# Altium footprint library Miscellaneous Devices LC.PcbLib: 559 footprints (part 15 of 35)
Each footprint in its own frame and in the unit in brackets; x right, y up, seen from the top. Pads: shape width x height; smd on the part's side, far side on the other; paste and mask are expansions set on the pad; w line width, h text height; cw(c..) or ccw(c..) is an arc to the next point about the centre after c.
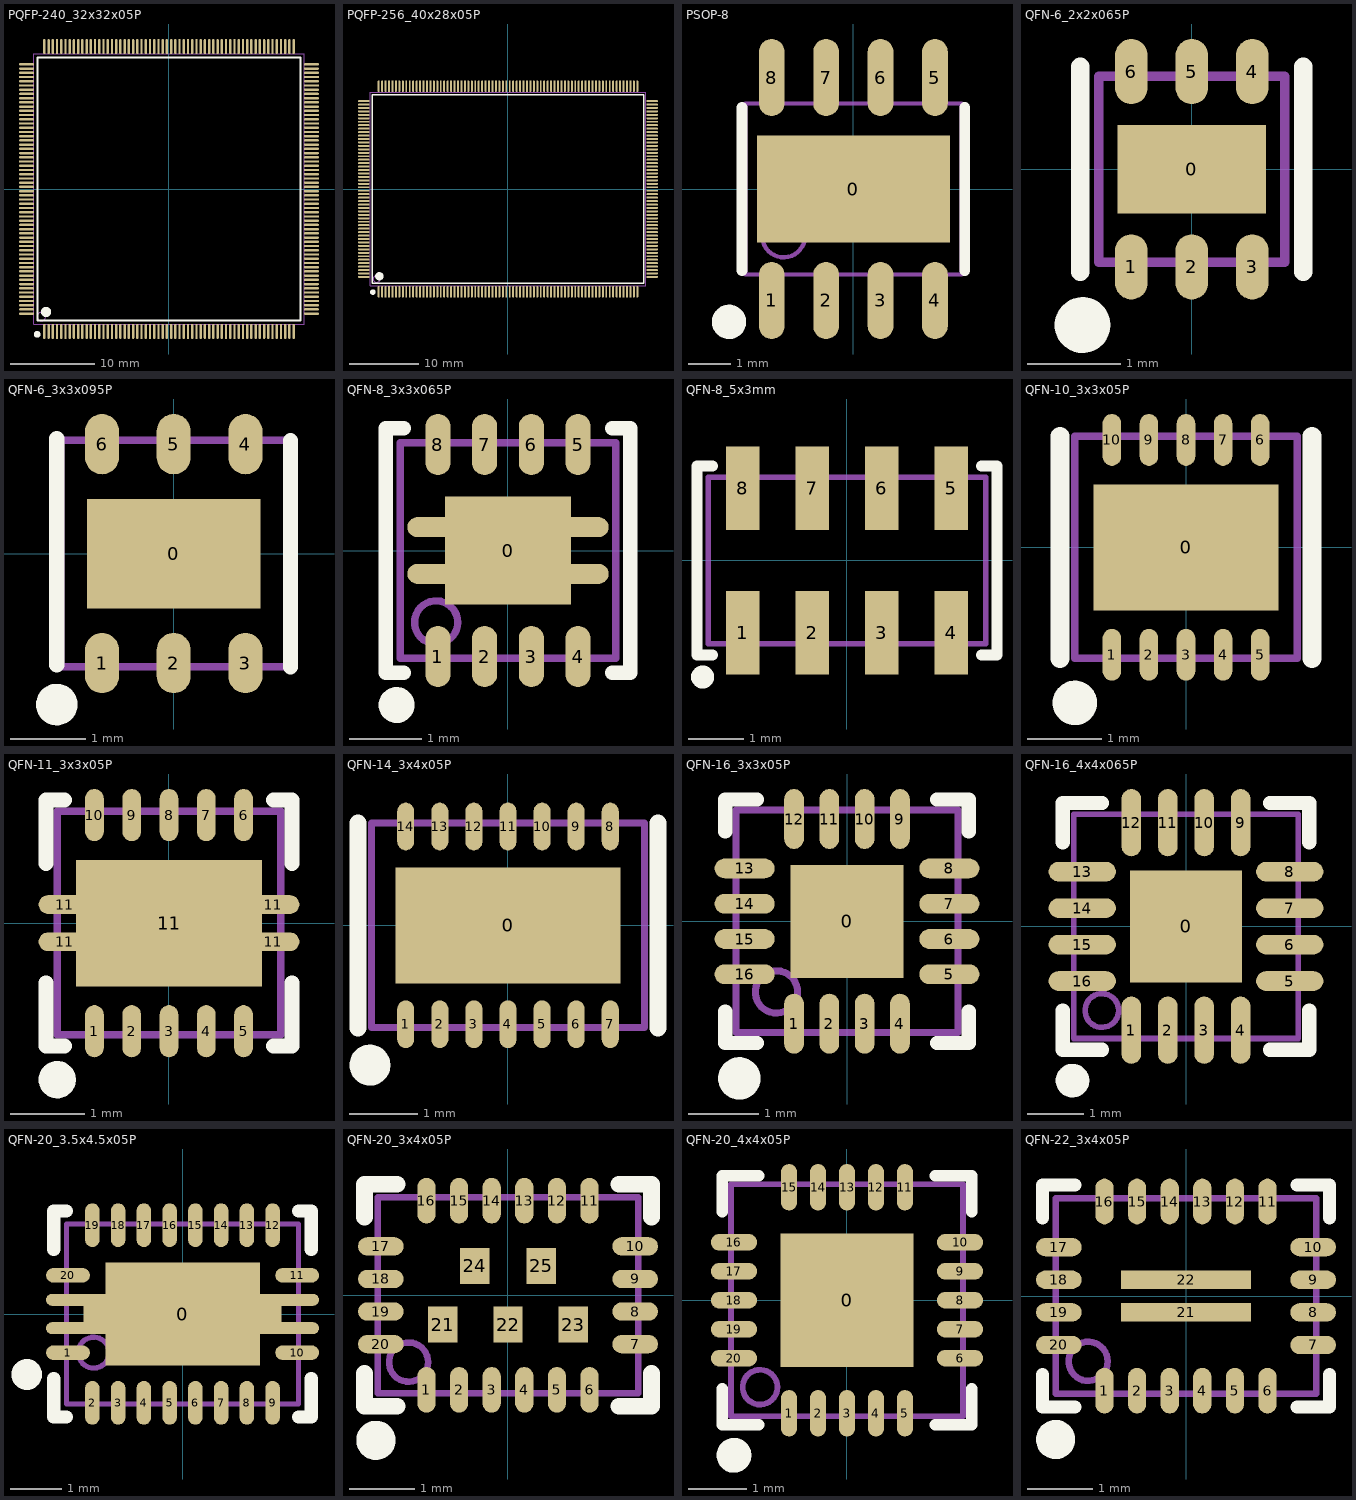
[diagram p14: the footprints below, top view; thin cyan lines are the x and y axes]

## PQFP-240_32x32x05P [mm]
pads (240):
  oval 0.28x1.8 smd mask+0.051: 1(-14.75,-16.85) 2(-14.25,-16.85) 3(-13.75,-16.85) 4(-13.25,-16.85) 5(-12.75,-16.85) 6(-12.25,-16.85) 7(-11.75,-16.85) 8(-11.25,-16.85) 9(-10.75,-16.85) 10(-10.25,-16.85) 11(-9.75,-16.85) 12(-9.25,-16.85) 13(-8.75,-16.85) 14(-8.25,-16.85) 15(-7.75,-16.85) 16(-7.25,-16.85) 17(-6.75,-16.85) 18(-6.25,-16.85) 19(-5.75,-16.85) 20(-5.25,-16.85) 21(-4.75,-16.85) 22(-4.25,-16.85) 23(-3.75,-16.85) 24(-3.25,-16.85) 25(-2.75,-16.85) 26(-2.25,-16.85) 27(-1.75,-16.85) 28(-1.25,-16.85) 29(-0.75,-16.85) 30(-0.25,-16.85) 31(0.25,-16.85) 32(0.75,-16.85) 33(1.25,-16.85) 34(1.75,-16.85) 35(2.25,-16.85) 36(2.75,-16.85) 37(3.25,-16.85) 38(3.75,-16.85) 39(4.25,-16.85) 40(4.75,-16.85) 41(5.25,-16.85) 42(5.75,-16.85) 43(6.25,-16.85) 44(6.75,-16.85) 45(7.25,-16.85) 46(7.75,-16.85) 47(8.25,-16.85) 48(8.75,-16.85) 49(9.25,-16.85) 50(9.75,-16.85) 51(10.25,-16.85) 52(10.75,-16.85) 53(11.25,-16.85) 54(11.75,-16.85) 55(12.25,-16.85) 56(12.75,-16.85) 57(13.25,-16.85) 58(13.75,-16.85) 59(14.25,-16.85) 60(14.75,-16.85) 121(14.75,16.85) 122(14.25,16.85) 123(13.75,16.85) 124(13.25,16.85) 125(12.75,16.85) 126(12.25,16.85) 127(11.75,16.85) 128(11.25,16.85) 129(10.75,16.85) 130(10.25,16.85) 131(9.75,16.85) 132(9.25,16.85) 133(8.75,16.85) 134(8.25,16.85) 135(7.75,16.85) 136(7.25,16.85) 137(6.75,16.85) 138(6.25,16.85) 139(5.75,16.85) 140(5.25,16.85) 141(4.75,16.85) 142(4.25,16.85) 143(3.75,16.85) 144(3.25,16.85) 145(2.75,16.85) 146(2.25,16.85) 147(1.75,16.85) 148(1.25,16.85) 149(0.75,16.85) 150(0.25,16.85) 151(-0.25,16.85) 152(-0.75,16.85) 153(-1.25,16.85) 154(-1.75,16.85) 155(-2.25,16.85) 156(-2.75,16.85) 157(-3.25,16.85) 158(-3.75,16.85) 159(-4.25,16.85) 160(-4.75,16.85) 161(-5.25,16.85) 162(-5.75,16.85) 163(-6.25,16.85) 164(-6.75,16.85) 165(-7.25,16.85) 166(-7.75,16.85) 167(-8.25,16.85) 168(-8.75,16.85) 169(-9.25,16.85) 170(-9.75,16.85) 171(-10.25,16.85) 172(-10.75,16.85) 173(-11.25,16.85) 174(-11.75,16.85) 175(-12.25,16.85) 176(-12.75,16.85) 177(-13.25,16.85) 178(-13.75,16.85) 179(-14.25,16.85) 180(-14.75,16.85)
  oval 1.8x0.28 smd mask+0.051: 61(16.85,-14.75) 62(16.85,-14.25) 63(16.85,-13.75) 64(16.85,-13.25) 65(16.85,-12.75) 66(16.85,-12.25) 67(16.85,-11.75) 68(16.85,-11.25) 69(16.85,-10.75) 70(16.85,-10.25) 71(16.85,-9.75) 72(16.85,-9.25) 73(16.85,-8.75) 74(16.85,-8.25) 75(16.85,-7.75) 76(16.85,-7.25) 77(16.85,-6.75) 78(16.85,-6.25) 79(16.85,-5.75) 80(16.85,-5.25) 81(16.85,-4.75) 82(16.85,-4.25) 83(16.85,-3.75) 84(16.85,-3.25) 85(16.85,-2.75) 86(16.85,-2.25) 87(16.85,-1.75) 88(16.85,-1.25) 89(16.85,-0.75) 90(16.85,-0.25) 91(16.85,0.25) 92(16.85,0.75) 93(16.85,1.25) 94(16.85,1.75) 95(16.85,2.25) 96(16.85,2.75) 97(16.85,3.25) 98(16.85,3.75) 99(16.85,4.25) 100(16.85,4.75) 101(16.85,5.25) 102(16.85,5.75) 103(16.85,6.25) 104(16.85,6.75) 105(16.85,7.25) 106(16.85,7.75) 107(16.85,8.25) 108(16.85,8.75) 109(16.85,9.25) 110(16.85,9.75) 111(16.85,10.25) 112(16.85,10.75) 113(16.85,11.25) 114(16.85,11.75) 115(16.85,12.25) 116(16.85,12.75) 117(16.85,13.25) 118(16.85,13.75) 119(16.85,14.25) 120(16.85,14.75) 181(-16.85,14.75) 182(-16.85,14.25) 183(-16.85,13.75) 184(-16.85,13.25) 185(-16.85,12.75) 186(-16.85,12.25) 187(-16.85,11.75) 188(-16.85,11.25) 189(-16.85,10.75) 190(-16.85,10.25) 191(-16.85,9.75) 192(-16.85,9.25) 193(-16.85,8.75) 194(-16.85,8.25) 195(-16.85,7.75) 196(-16.85,7.25) 197(-16.85,6.75) 198(-16.85,6.25) 199(-16.85,5.75) 200(-16.85,5.25) 201(-16.85,4.75) 202(-16.85,4.25) 203(-16.85,3.75) 204(-16.85,3.25) 205(-16.85,2.75) 206(-16.85,2.25) 207(-16.85,1.75) 208(-16.85,1.25) 209(-16.85,0.75) 210(-16.85,0.25) 211(-16.85,-0.25) 212(-16.85,-0.75) 213(-16.85,-1.25) 214(-16.85,-1.75) 215(-16.85,-2.25) 216(-16.85,-2.75) 217(-16.85,-3.25) 218(-16.85,-3.75) 219(-16.85,-4.25) 220(-16.85,-4.75) 221(-16.85,-5.25) 222(-16.85,-5.75) 223(-16.85,-6.25) 224(-16.85,-6.75) 225(-16.85,-7.25) 226(-16.85,-7.75) 227(-16.85,-8.25) 228(-16.85,-8.75) 229(-16.85,-9.25) 230(-16.85,-9.75) 231(-16.85,-10.25) 232(-16.85,-10.75) 233(-16.85,-11.25) 234(-16.85,-11.75) 235(-16.85,-12.25) 236(-16.85,-12.75) 237(-16.85,-13.25) 238(-16.85,-13.75) 239(-16.85,-14.25) 240(-16.85,-14.75)
Top Overlay:
  circle w0.6: c-14.55,-14.55 r0.3
  circle w0.4: c-15.6,-17.2 r0.2
  lines w0.2: -15.55,-15.55 -15.55,15.55 15.55,15.55 15.55,-15.55 -15.55,-15.55
Mechanical 13:
  circle w0.1: c-15.1,-15.1 r0.5
  lines w0.1: -16,-16 -16,16 16,16 16,-16 -16,-16

## PQFP-256_40x28x05P [mm] "Shrink QFP, 256-Leads, Body 40x28 mm, Pitch 0.5mm, IPC Medium Density"
pads (256):
  oval 0.28x1.7 smd mask+0.051: 1(-18.75,-14.9) 2(-18.25,-14.9) 3(-17.75,-14.9) 4(-17.25,-14.9) 5(-16.75,-14.9) 6(-16.25,-14.9) 7(-15.75,-14.9) 8(-15.25,-14.9) 9(-14.75,-14.9) 10(-14.25,-14.9) 11(-13.75,-14.9) 12(-13.25,-14.9) 13(-12.75,-14.9) 14(-12.25,-14.9) 15(-11.75,-14.9) 16(-11.25,-14.9) 17(-10.75,-14.9) 18(-10.25,-14.9) 19(-9.75,-14.9) 20(-9.25,-14.9) 21(-8.75,-14.9) 22(-8.25,-14.9) 23(-7.75,-14.9) 24(-7.25,-14.9) 25(-6.75,-14.9) 26(-6.25,-14.9) 27(-5.75,-14.9) 28(-5.25,-14.9) 29(-4.75,-14.9) 30(-4.25,-14.9) 31(-3.75,-14.9) 32(-3.25,-14.9) 33(-2.75,-14.9) 34(-2.25,-14.9) 35(-1.75,-14.9) 36(-1.25,-14.9) 37(-0.75,-14.9) 38(-0.25,-14.9) 39(0.25,-14.9) 40(0.75,-14.9) 41(1.25,-14.9) 42(1.75,-14.9) 43(2.25,-14.9) 44(2.75,-14.9) 45(3.25,-14.9) 46(3.75,-14.9) 47(4.25,-14.9) 48(4.75,-14.9) 49(5.25,-14.9) 50(5.75,-14.9) 51(6.25,-14.9) 52(6.75,-14.9) 53(7.25,-14.9) 54(7.75,-14.9) 55(8.25,-14.9) 56(8.75,-14.9) 57(9.25,-14.9) 58(9.75,-14.9) 59(10.25,-14.9) 60(10.75,-14.9) 61(11.25,-14.9) 62(11.75,-14.9) 63(12.25,-14.9) 64(12.75,-14.9) 65(13.25,-14.9) 66(13.75,-14.9) 67(14.25,-14.9) 68(14.75,-14.9) 69(15.25,-14.9) 70(15.75,-14.9) 71(16.25,-14.9) 72(16.75,-14.9) 73(17.25,-14.9) 74(17.75,-14.9) 75(18.25,-14.9) 76(18.75,-14.9) 129(18.75,14.9) 130(18.25,14.9) 131(17.75,14.9) 132(17.25,14.9) 133(16.75,14.9) 134(16.25,14.9) 135(15.75,14.9) 136(15.25,14.9) 137(14.75,14.9) 138(14.25,14.9) 139(13.75,14.9) 140(13.25,14.9) 141(12.75,14.9) 142(12.25,14.9) 143(11.75,14.9) 144(11.25,14.9) 145(10.75,14.9) 146(10.25,14.9) 147(9.75,14.9) 148(9.25,14.9) 149(8.75,14.9) 150(8.25,14.9) 151(7.75,14.9) 152(7.25,14.9) 153(6.75,14.9) 154(6.25,14.9) 155(5.75,14.9) 156(5.25,14.9) 157(4.75,14.9) 158(4.25,14.9) 159(3.75,14.9) 160(3.25,14.9) 161(2.75,14.9) 162(2.25,14.9) 163(1.75,14.9) 164(1.25,14.9) 165(0.75,14.9) 166(0.25,14.9) 167(-0.25,14.9) 168(-0.75,14.9) 169(-1.25,14.9) 170(-1.75,14.9) 171(-2.25,14.9) 172(-2.75,14.9) 173(-3.25,14.9) 174(-3.75,14.9) 175(-4.25,14.9) 176(-4.75,14.9) 177(-5.25,14.9) 178(-5.75,14.9) 179(-6.25,14.9) 180(-6.75,14.9) 181(-7.25,14.9) 182(-7.75,14.9) 183(-8.25,14.9) 184(-8.75,14.9) 185(-9.25,14.9) 186(-9.75,14.9) 187(-10.25,14.9) 188(-10.75,14.9) 189(-11.25,14.9) 190(-11.75,14.9) 191(-12.25,14.9) 192(-12.75,14.9) 193(-13.25,14.9) 194(-13.75,14.9) 195(-14.25,14.9) 196(-14.75,14.9) 197(-15.25,14.9) 198(-15.75,14.9) 199(-16.25,14.9) 200(-16.75,14.9) 201(-17.25,14.9) 202(-17.75,14.9) 203(-18.25,14.9) 204(-18.75,14.9)
  oval 1.7x0.28 smd mask+0.051: 77(20.9,-12.75) 78(20.9,-12.25) 79(20.9,-11.75) 80(20.9,-11.25) 81(20.9,-10.75) 82(20.9,-10.25) 83(20.9,-9.75) 84(20.9,-9.25) 85(20.9,-8.75) 86(20.9,-8.25) 87(20.9,-7.75) 88(20.9,-7.25) 89(20.9,-6.75) 90(20.9,-6.25) 91(20.9,-5.75) 92(20.9,-5.25) 93(20.9,-4.75) 94(20.9,-4.25) 95(20.9,-3.75) 96(20.9,-3.25) 97(20.9,-2.75) 98(20.9,-2.25) 99(20.9,-1.75) 100(20.9,-1.25) 101(20.9,-0.75) 102(20.9,-0.25) 103(20.9,0.25) 104(20.9,0.75) 105(20.9,1.25) 106(20.9,1.75) 107(20.9,2.25) 108(20.9,2.75) 109(20.9,3.25) 110(20.9,3.75) 111(20.9,4.25) 112(20.9,4.75) 113(20.9,5.25) 114(20.9,5.75) 115(20.9,6.25) 116(20.9,6.75) 117(20.9,7.25) 118(20.9,7.75) 119(20.9,8.25) 120(20.9,8.75) 121(20.9,9.25) 122(20.9,9.75) 123(20.9,10.25) 124(20.9,10.75) 125(20.9,11.25) 126(20.9,11.75) 127(20.9,12.25) 128(20.9,12.75) 205(-20.9,12.75) 206(-20.9,12.25) 207(-20.9,11.75) 208(-20.9,11.25) 209(-20.9,10.75) 210(-20.9,10.25) 211(-20.9,9.75) 212(-20.9,9.25) 213(-20.9,8.75) 214(-20.9,8.25) 215(-20.9,7.75) 216(-20.9,7.25) 217(-20.9,6.75) 218(-20.9,6.25) 219(-20.9,5.75) 220(-20.9,5.25) 221(-20.9,4.75) 222(-20.9,4.25) 223(-20.9,3.75) 224(-20.9,3.25) 225(-20.9,2.75) 226(-20.9,2.25) 227(-20.9,1.75) 228(-20.9,1.25) 229(-20.9,0.75) 230(-20.9,0.25) 231(-20.9,-0.25) 232(-20.9,-0.75) 233(-20.9,-1.25) 234(-20.9,-1.75) 235(-20.9,-2.25) 236(-20.9,-2.75) 237(-20.9,-3.25) 238(-20.9,-3.75) 239(-20.9,-4.25) 240(-20.9,-4.75) 241(-20.9,-5.25) 242(-20.9,-5.75) 243(-20.9,-6.25) 244(-20.9,-6.75) 245(-20.9,-7.25) 246(-20.9,-7.75) 247(-20.9,-8.25) 248(-20.9,-8.75) 249(-20.9,-9.25) 250(-20.9,-9.75) 251(-20.9,-10.25) 252(-20.9,-10.75) 253(-20.9,-11.25) 254(-20.9,-11.75) 255(-20.9,-12.25) 256(-20.9,-12.75)
Top Overlay:
  circle w0.4: c-19.6,-14.95 r0.2
  circle w0.6: c-18.65,-12.65 r0.3
  lines w0.2: -19.65,-13.65 19.65,-13.65 19.65,13.65 -19.65,13.65 -19.65,-13.65
Mechanical 13:
  circle w0.1: c-19.05,-13.05 r0.5
  lines w0.1: -20,-14 20,-14 20,14 -20,14 -20,-14

## PSOP-8 [mm]
pads (9):
  rect 4.5x2.5 smd: 0(0,0)
  oval 0.6x1.8 smd: 1(-1.905,-2.6) 2(-0.635,-2.6) 3(0.635,-2.6) 4(1.905,-2.6) 5(1.905,2.6) 6(0.635,2.6) 7(-0.635,2.6) 8(-1.905,2.6)
Top Overlay:
  circle w0.4: c-2.9,-3.1 r0.2
  lines w0.254: -2.6,-1.9 -2.6,1.9 ; 2.6,-1.9 2.6,1.9
Mechanical 13:
  circle w0.1: c-1.625,-1.095 r0.5
  lines w0.1: -2.525,-1.995 2.525,-1.995 2.525,1.995 -2.525,1.995 -2.525,-1.995
3D body "User Library-SOIC-8-150.STEP": height 1.75, standoff 0, extent -2.5,-3.1 2.5,3.1

## QFN-6_2x2x065P [mm]
pads (7):
  rect 1.6x0.95 smd mask+0.051: 0(0,0)
  oval 0.35x0.7 smd mask+0.051: 1(-0.65,-1.05) 2(0,-1.05) 3(0.65,-1.05) 4(0.65,1.05) 5(0,1.05) 6(-0.65,1.05)
Top Overlay:
  circle w0.3: c-1.175,-1.675 r0.15
  lines w0.2: -1.2,-1.1 -1.2,1.1 ; 1.2,-1.1 1.2,1.1
Mechanical 13:
  lines w0.1: -1,-1 -1,1 1,1 1,-1 -1,-1

## QFN-6_3x3x095P [mm]
pads (7):
  rect 2.3x1.45 smd: 0(0,0)
  oval 0.45x0.8 smd: 1(-0.95,-1.45) 2(0,-1.45) 3(0.95,-1.45) 4(0.95,1.45) 5(0,1.45) 6(-0.95,1.45)
Top Overlay:
  circle w0.3: c-1.55,-2 r0.125
  lines w0.2: -1.55,-1.475 -1.55,1.525 ; 1.55,-1.5 1.55,1.5
Mechanical 13:
  lines w0.1: -1.5,-1.5 -1.5,1.5 1.5,1.5 1.5,-1.5 -1.5,-1.5

## QFN-8_3x3x065P [mm]
pads (11):
  rect 1.75x1.5 smd: 0(0,0)
  oval 0.35x0.85 smd: 1(-0.975,-1.475) 2(-0.325,-1.475) 3(0.325,-1.475) 4(0.975,-1.475) 5(0.975,1.475) 6(0.325,1.475) 7(-0.325,1.475) 8(-0.975,1.475)
  oval 2.8x0.28 smd: ""(0,-0.325) ""(0,0.325)
Top Overlay:
  circle w0.25: c-1.55,-2.15 r0.125
  lines w0.2: -1.45,-1.7 -1.7,-1.7 -1.7,1.7 -1.45,1.7 ; 1.45,-1.7 1.7,-1.7 1.7,1.7 1.45,1.7
Mechanical 13:
  circle w0.1: c-1,-1 r0.3
  lines w0.1: -1.5,-1.5 -1.5,1.5 1.5,1.5 1.5,-1.5 -1.5,-1.5

## QFN-8_5x3mm [mm]
pads (8):
  rect 0.6x1.5 smd: 1(-1.875,-1.3) 2(-0.625,-1.3) 3(0.625,-1.3) 4(1.875,-1.3) 5(1.875,1.3) 6(0.625,1.3) 7(-0.625,1.3) 8(-1.875,1.3)
Top Overlay:
  circle w0.254: c-2.6,-2.1 r0.08
  lines w0.2: -2.425,-1.7 -2.7,-1.7 -2.7,1.7 -2.425,1.7 ; 2.425,-1.7 2.7,-1.7 2.7,1.7 2.425,1.7
Mechanical 13:
  lines w0.1: -2.5,-1.5 2.5,-1.5 2.5,1.5 -2.5,1.5 -2.5,-1.5

## QFN-10_3x3x05P [mm]
pads (11):
  rect 2.5x1.7 smd mask+0.051: 0(0,0)
  oval 0.25x0.7 smd mask+0.051: 1(-1,-1.45) 2(-0.5,-1.45) 3(0,-1.45) 4(0.5,-1.45) 5(1,-1.45) 6(1,1.45) 7(0.5,1.45) 8(0,1.45) 9(-0.5,1.45) 10(-1,1.45)
Top Overlay:
  circle w0.3: c-1.5,-2.1 r0.15
  lines w0.254: -1.7,-1.5 -1.7,1.5 ; 1.7,-1.5 1.7,1.5
Mechanical 13:
  lines w0.1: -1.5,-1.5 1.5,-1.5 1.5,1.5 -1.5,1.5 -1.5,-1.5

## QFN-11_3x3x05P [mm]
pads (15):
  oval 0.25x0.7 smd mask+0.051: 1(-1,-1.45) 2(-0.5,-1.45) 3(0,-1.45) 4(0.5,-1.45) 5(1,-1.45) 6(1,1.45) 7(0.5,1.45) 8(0,1.45) 9(-0.5,1.45) 10(-1,1.45)
  oval 0.7x0.25 smd mask+0.051: 11(-1.4,-0.25) 11(-1.4,0.25) 11(1.4,-0.25) 11(1.4,0.25)
  rect 2.5x1.7 smd mask+0.051: 11(0,0)
Top Overlay:
  circle w0.25: c-1.5,-2.1 r0.125
  lines w0.2: -1.65,-0.8 -1.65,-1.65 -1.4,-1.65 ; -1.65,0.8 -1.65,1.65 -1.4,1.65 ; 1.4,-1.65 1.65,-1.65 1.65,-0.8 ; 1.4,1.65 1.65,1.65 1.65,0.8
Mechanical 13:
  lines w0.1: -1.5,-1.5 1.5,-1.5 1.5,1.5 -1.5,1.5 -1.5,-1.5

## QFN-14_3x4x05P [mm]
pads (15):
  rect 3.3x1.7 smd mask+0.051: 0(0,0)
  oval 0.25x0.7 smd mask+0.051: 1(-1.5,-1.45) 2(-1,-1.45) 3(-0.5,-1.45) 4(0,-1.45) 5(0.5,-1.45) 6(1,-1.45) 7(1.5,-1.45) 8(1.5,1.45) 9(1,1.45) 10(0.5,1.45) 11(0,1.45) 12(-0.5,1.45) 13(-1,1.45) 14(-1.5,1.45)
Top Overlay:
  circle w0.3: c-2.025,-2.05 r0.15
  lines w0.254: -2.2,-1.5 -2.2,1.5 ; 2.2,-1.5 2.2,1.5
Mechanical 13:
  lines w0.1: -2,-1.5 2,-1.5 2,1.5 -2,1.5 -2,-1.5

## QFN-16_3x3x05P [mm] "QFN, 16-Leads, Body 3.00x3.00mm, Pitch 0.50mm, Thermal Pad 1.70x1.70mm, IPC Medium Density"
height 1
pads (17):
  rect 1.6x1.6 smd mask+0.051: 0(0,0)
  oval 0.28x0.85 smd mask+0.051: 1(-0.75,-1.45) 2(-0.25,-1.45) 3(0.25,-1.45) 4(0.75,-1.45) 9(0.75,1.45) 10(0.25,1.45) 11(-0.25,1.45) 12(-0.75,1.45)
  oval 0.85x0.28 smd mask+0.051: 5(1.45,-0.75) 6(1.45,-0.25) 7(1.45,0.25) 8(1.45,0.75) 13(-1.45,0.75) 14(-1.45,0.25) 15(-1.45,-0.25) 16(-1.45,-0.75)
Top Overlay:
  circle w0.3: c-1.525,-2.225 r0.15
  lines w0.2: -1.725,-1.275 -1.725,-1.725 -1.275,-1.725 ; -1.725,1.275 -1.725,1.725 -1.275,1.725 ; 1.275,-1.725 1.725,-1.725 1.725,-1.275 ; 1.275,1.725 1.725,1.725 1.725,1.275
Mechanical 13:
  circle w0.1: c-1,-1 r0.3
  lines w0.1: -1.575,-1.575 1.575,-1.575 1.575,1.575 -1.575,1.575 -1.575,-1.575
3D body "QFN16 3x3.STEP": height 0.9, standoff 0, extent -1.521,-1.549 1.521,1.493

## QFN-16_4x4x065P [mm] "QFN, 16-Leads, Body 3.00x3.00mm, Pitch 0.50mm, Thermal Pad 1.70x1.70mm, IPC Medium Density"
height 1
pads (17):
  rect 2x2 smd mask+0.051: 0(0,0)
  oval 0.35x1.2 smd mask+0.051: 1(-0.975,-1.85) 2(-0.325,-1.85) 3(0.325,-1.85) 4(0.975,-1.85) 9(0.975,1.85) 10(0.325,1.85) 11(-0.325,1.85) 12(-0.975,1.85)
  oval 1.2x0.35 smd mask+0.051: 5(1.85,-0.975) 6(1.85,-0.325) 7(1.85,0.325) 8(1.85,0.975) 13(-1.85,0.975) 14(-1.85,0.325) 15(-1.85,-0.325) 16(-1.85,-0.975)
Top Overlay:
  circle w0.3: c-2.025,-2.75 r0.15
  lines w0.254: -2.2,-1.5 -2.2,-2.2 -1.5,-2.2 ; -2.2,1.5 -2.2,2.2 -1.5,2.2 ; 1.5,-2.2 2.2,-2.2 2.2,-1.5 ; 1.5,2.2 2.2,2.2 2.2,1.5
Mechanical 13:
  circle w0.1: c-1.5,-1.5 r0.3
  lines w0.1: -2,-2 2,-2 2,2 -2,2 -2,-2
3D body "QFN16 4x4.STEP": height 0.92, standoff 0, extent -2,-2 2,2

## QFN-20_3.5x4.5x05P [mm]
pads (26):
  rect 3x2 smd mask+0.051: 0(0,0)
  oval 0.85x0.28 smd mask+0.051: 1(-2.225,-0.75) 10(2.225,-0.75) 11(2.225,0.75) 20(-2.225,0.75)
  oval 0.28x0.85 smd mask+0.051: 2(-1.75,-1.725) 3(-1.25,-1.725) 4(-0.75,-1.725) 5(-0.25,-1.725) 6(0.25,-1.725) 7(0.75,-1.725) 8(1.25,-1.725) 9(1.75,-1.725) 12(1.75,1.725) 13(1.25,1.725) 14(0.75,1.725) 15(0.25,1.725) 16(-0.25,1.725) 17(-0.75,1.725) 18(-1.25,1.725) 19(-1.75,1.725)
  oval 1.3x0.23 smd mask+0.051: ""(-2,-0.275) ""(-2,0.275) ""(2,-0.275) ""(2,0.275)
  rect 3.85x0.505 smd mask+0.051: ""(0,0)
Top Overlay:
  circle w0.3: c-3.025,-1.175 r0.15
  lines w0.254: -2.5,-1.25 -2.5,-2 -2.25,-2 ; -2.5,1.25 -2.5,2 -2.25,2 ; 2.25,-2 2.5,-2 2.5,-1.25 ; 2.25,2 2.5,2 2.5,1.25
Mechanical 13:
  circle w0.1: c-1.725,-0.75 r0.3
  lines w0.1: -2.25,-1.75 2.25,-1.75 2.25,1.75 -2.25,1.75 -2.25,-1.75

## QFN-20_3x4x05P [mm]
pads (25):
  oval 0.28x0.7 smd mask+0.051: 1(-1.25,-1.45) 2(-0.75,-1.45) 3(-0.25,-1.45) 4(0.25,-1.45) 5(0.75,-1.45) 6(1.25,-1.45) 11(1.25,1.45) 12(0.75,1.45) 13(0.25,1.45) 14(-0.25,1.45) 15(-0.75,1.45) 16(-1.25,1.45)
  oval 0.7x0.28 smd mask+0.051: 7(1.95,-0.75) 8(1.95,-0.25) 9(1.95,0.25) 10(1.95,0.75) 17(-1.95,0.75) 18(-1.95,0.25) 19(-1.95,-0.25) 20(-1.95,-0.75)
  rect 0.45x0.55 smd mask+0.051: 21(-1,-0.45) 22(0,-0.45) 23(1,-0.45) 24(-0.51,0.45) 25(0.51,0.45)
Top Overlay:
  circle w0.3: c-2.025,-2.225 r0.15
  lines w0.254: -2.2,-1.2 -2.2,-1.7 -1.7,-1.7 ; -2.2,1.2 -2.2,1.7 -1.7,1.7 ; 1.7,-1.7 2.2,-1.7 2.2,-1.2 ; 1.7,1.7 2.2,1.7 2.2,1.2
Mechanical 13:
  circle w0.1: c-1.525,-1.025 r0.3
  lines w0.1: -2,-1.5 -2,1.5 2,1.5 2,-1.5 -2,-1.5

## QFN-20_4x4x05P [mm]
pads (21):
  rect 2.3x2.3 smd mask+0.051: 0(0,0)
  oval 0.28x0.8 smd mask+0.051: 1(-1,-1.95) 2(-0.5,-1.95) 3(0,-1.95) 4(0.5,-1.95) 5(1,-1.95) 11(1,1.95) 12(0.5,1.95) 13(0,1.95) 14(-0.5,1.95) 15(-1,1.95)
  oval 0.8x0.28 smd mask+0.051: 6(1.95,-1) 7(1.95,-0.5) 8(1.95,0) 9(1.95,0.5) 10(1.95,1) 16(-1.95,1) 17(-1.95,0.5) 18(-1.95,0) 19(-1.95,-0.5) 20(-1.95,-1)
Top Overlay:
  circle w0.3: c-1.95,-2.675 r0.15
  lines w0.2: -2.15,-1.525 -2.15,-2.15 -1.525,-2.15 ; -2.15,1.525 -2.15,2.15 -1.525,2.15 ; 1.525,-2.15 2.15,-2.15 2.15,-1.525 ; 1.525,2.15 2.15,2.15 2.15,1.525
Mechanical 13:
  circle w0.1: c-1.5,-1.5 r0.3
  lines w0.1: -2,-2 -2,2 2,2 2,-2 -2,-2

## QFN-22_3x4x05P [mm]
pads (22):
  oval 0.28x0.7 smd mask+0.051: 1(-1.25,-1.45) 2(-0.75,-1.45) 3(-0.25,-1.45) 4(0.25,-1.45) 5(0.75,-1.45) 6(1.25,-1.45) 11(1.25,1.45) 12(0.75,1.45) 13(0.25,1.45) 14(-0.25,1.45) 15(-0.75,1.45) 16(-1.25,1.45)
  oval 0.7x0.28 smd mask+0.051: 7(1.95,-0.75) 8(1.95,-0.25) 9(1.95,0.25) 10(1.95,0.75) 17(-1.95,0.75) 18(-1.95,0.25) 19(-1.95,-0.25) 20(-1.95,-0.75)
  rect 2x0.28 smd mask+0.051: 21(0,-0.25) 22(0,0.25)
Top Overlay:
  circle w0.3: c-2,-2.2 r0.15
  lines w0.2: -2.2,-1.2 -2.2,-1.7 -1.7,-1.7 ; -2.2,1.2 -2.2,1.7 -1.7,1.7 ; 1.7,-1.7 2.2,-1.7 2.2,-1.2 ; 1.7,1.7 2.2,1.7 2.2,1.2
Mechanical 13:
  circle w0.1: c-1.5,-1 r0.3
  lines w0.1: -2,-1.5 -2,1.5 2,1.5 2,-1.5 -2,-1.5